# EAGLE library part UCC28221D (library UCC28221D)
Dual Interleaved PWM Controller with Programmable Max Duty Cycle Source: Datasheet <http://www.ti.com/lit/gpn/ucc28221>
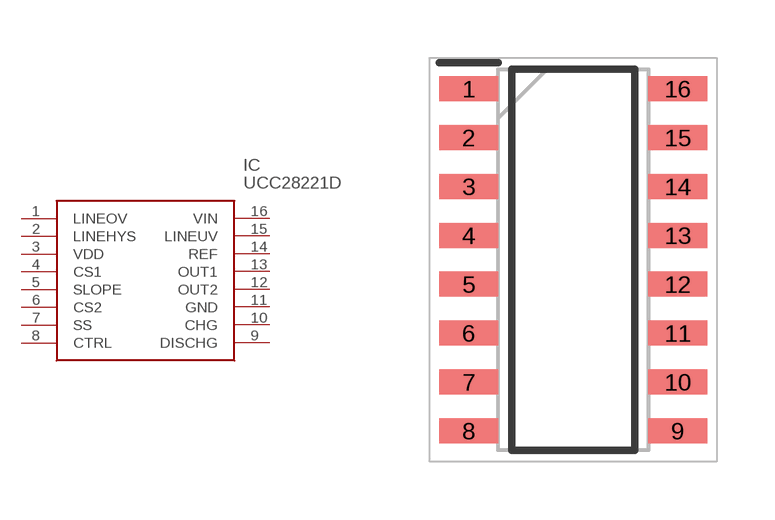
[diagram p0: symbol with the pads of SOIC127P600X175-16N; footprint SOIC127P600X175-16N]

Designator prefix IC

## UCC28221D (Description: Dual Interleaved PWM Controller with Programmable Max Duty Cycle; Height: 1.75mm; Manufacturer_Name: Texas Instruments; Manufacturer_Part_Number: UCC28221D; Mouser_Part_Number: 595-UCC28221D; Mouser_Price-Stock: https://www.mouser.co.uk/ProductDetail/Texas-Instruments/UCC28221D/?qs=eJkN62t4xTWVlcTfMjdgEA%3D%3D)  [SOIC127P600X175-16N]
1  LINEOV
2  LINEHYS
3  VDD
4  CS1
5  SLOPE
6  CS2
7  SS
8  CTRL
9  DISCHG
10  CHG
11  GND
12  OUT2
13  OUT1
14  REF
15  LINEUV
16  VIN

## Footprint SOIC127P600X175-16N (pad centres in mm)
D (R-PDSO-G16)
smd 1.525 x 0.65: 1 -2.712,4.445; 2 -2.712,3.175; 3 -2.712,1.905; 4 -2.712,0.635; 5 -2.712,-0.635; 6 -2.712,-1.905; 7 -2.712,-3.175; 8 -2.712,-4.445; 9 2.712,-4.445; 10 2.712,-3.175; 11 2.712,-1.905; 12 2.712,-0.635; 13 2.712,0.635; 14 2.712,1.905; 15 2.712,3.175; 16 2.712,4.445